# Altium schematic symbol library SCH - DRIVER - LED - TI TLC6C5716-Q1DAP.SchLib: 1 symbol
Pins are listed as number, name and electrical type; pins without a type are passive.

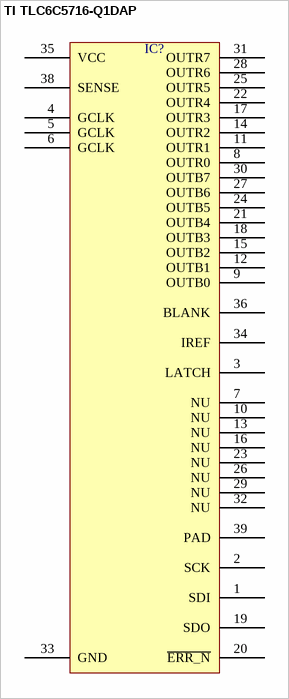
[diagram p0: symbol TI TLC6C5716-Q1DAP]

## TI TLC6C5716-Q1DAP
designator IC?  (value not drawn)
pins: 1 SDI, 2 SCK, 3 LATCH, 4 GCLK, 5 GCLK, 6 GCLK, 7 NU, 8 OUTR0, 9 OUTB0, 10 NU, 11 OUTR1, 12 OUTB1, 13 NU, 14 OUTR2, 15 OUTB2, 16 NU, 17 OUTR3, 18 OUTB3, 19 SDO, 20 ~{ERR_N}, 21 OUTB4, 22 OUTR4, 23 NU, 24 OUTB5, 25 OUTR5, 26 NU, 27 OUTB6, 28 OUTR6, 29 NU, 30 OUTB7, 31 OUTR7, 32 NU, 33 GND, 34 IREF, 35 VCC, 36 BLANK, 38 SENSE, 39 PAD